# Altium schematic symbol library yi.SchLib: 4 symbols
Pins are listed as number, name and electrical type; pins without a type are passive.

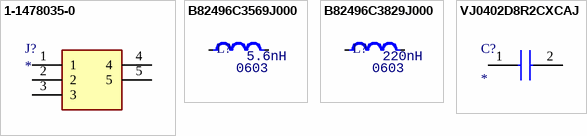
[diagram p0: symbols 1-1478035-0 to VJ0402D8R2CXCAJ]

## 1-1478035-0
designator J?
Connector; Manufacturer_Name: TE Connectivity; Manufacturer_Part_Number: 1-1478035-0; Description: TE Connectivity Greenpar Series Right Angle 50 Through Hole Bulkhead Fitting BNC Connector; Allied_Number: 70283401; Datasheet Link: https://www.te.com/commerce/DocumentDelivery/DDEController?Action=showdoc&DocId=Customer+Drawing%7F1478035%7FB1%7Fpdf%7FEnglish%7FENG_CD_1478035_B1.pdf%7F1-1478035-0; Height: 18.6mm; Mouser Part Number: 571-1-1478035-0; Mouser Price/Stock: https://www.mouser.com/Search/Refine.aspx?Keyword=571-1-1478035-0; RS Part Number: 1641425; RS Price/Stock: http://uk.rs-online.com/web/p/products/1641425; Allied Price/Stock: https://www.alliedelec.com/teconnectivity-1-1478035-0/70283401/
footprint 114780350
pins: 1, 2, 3, 4, 5

## B82496C3569J000
designator L?, comment Type: 0603  (hidden comment: 5.6nH)
Inductor; Specification: ±5% 100mA; Manufacturer: *; Value: 5.6nH
pins: 1, 2

## B82496C3829J000
designator L?, comment Type: 0603  (hidden comment: 220nH)
Inductor; Specification: ±5% 100mA; Manufacturer: *; Value: 220nH
pins: 1, 2

## VJ0402D8R2CXCAJ
designator C?
8.2pF Capacitor; Manufacturer_Name: AVX; Manufacturer_Part_Number: 06032U1R5BAT2A; Allied_Number: 70473499; Datasheet Link: http://www.mouser.com/catalog/supplier/library/pdf/AVXSurfaceMountCeramic.pdf; Height: 0.9mm; Mouser Part Number: 581-06032U1R5BAT2A; Mouser Price/Stock: http://www.mouser.com/Search/ProductDetail.aspx?qs=HHtk9%2fstK94%2fdhQq%2fiZoHQ%3d%3d; RS Part Number: 6983986; RS Price/Stock: https://uk.rs-online.com/web/p/products/6983986; Allied Price/Stock: https://www.alliedelec.com/avx-06032u1r5bat2a/70473499/
pins: 1, 2